# Altium footprint library PcbLib1.PcbLib: 1 footprints
Each footprint in its own frame and in the unit in brackets; x right, y up, seen from the top. Pads: shape width x height; smd on the part's side, far side on the other; paste and mask are expansions set on the pad; w line width, h text height; cw(c..) or ccw(c..) is an arc to the next point about the centre after c.
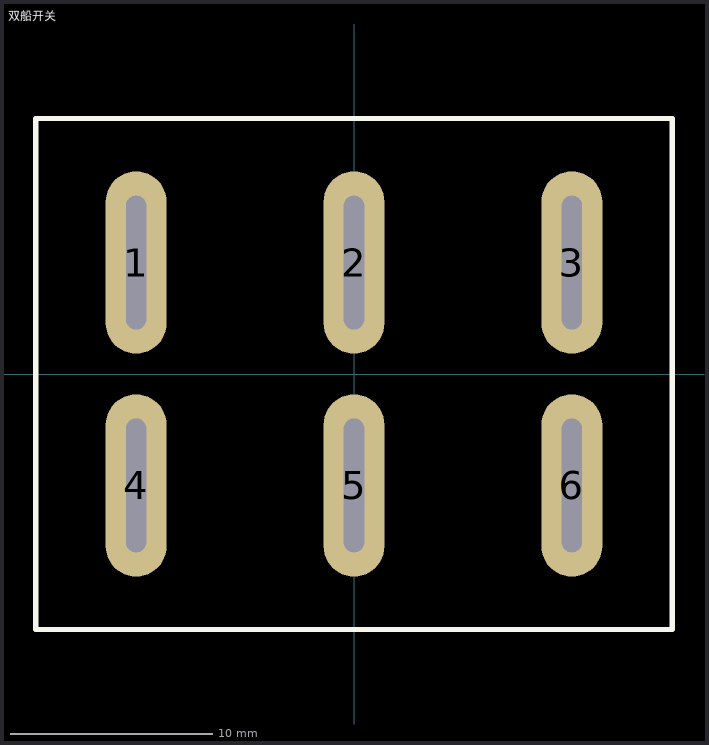
[diagram p0: the footprint, top view; thin cyan lines are the x and y axes]

## 双船开关 [mm]
pads (6):
  oval 3x9 hole 1 slot 6.6 at 90 deg: 1(-10.75,5.5) 2(0,5.5) 3(10.75,5.5) 4(-10.75,-5.5) 5(0,-5.5) 6(10.75,-5.5)
Top Overlay:
  lines w0.254: -15.7,-12.6 -15.7,12.6 15.7,12.6 15.7,-12.6 -15.7,-12.6